# Altium footprint library footprint.PcbLib: 25 footprints (part 1 of 2)
Each footprint in its own frame and in the unit in brackets; x right, y up, seen from the top. Pads: shape width x height; smd on the part's side, far side on the other; paste and mask are expansions set on the pad; w line width, h text height; cw(c..) or ccw(c..) is an arc to the next point about the centre after c.
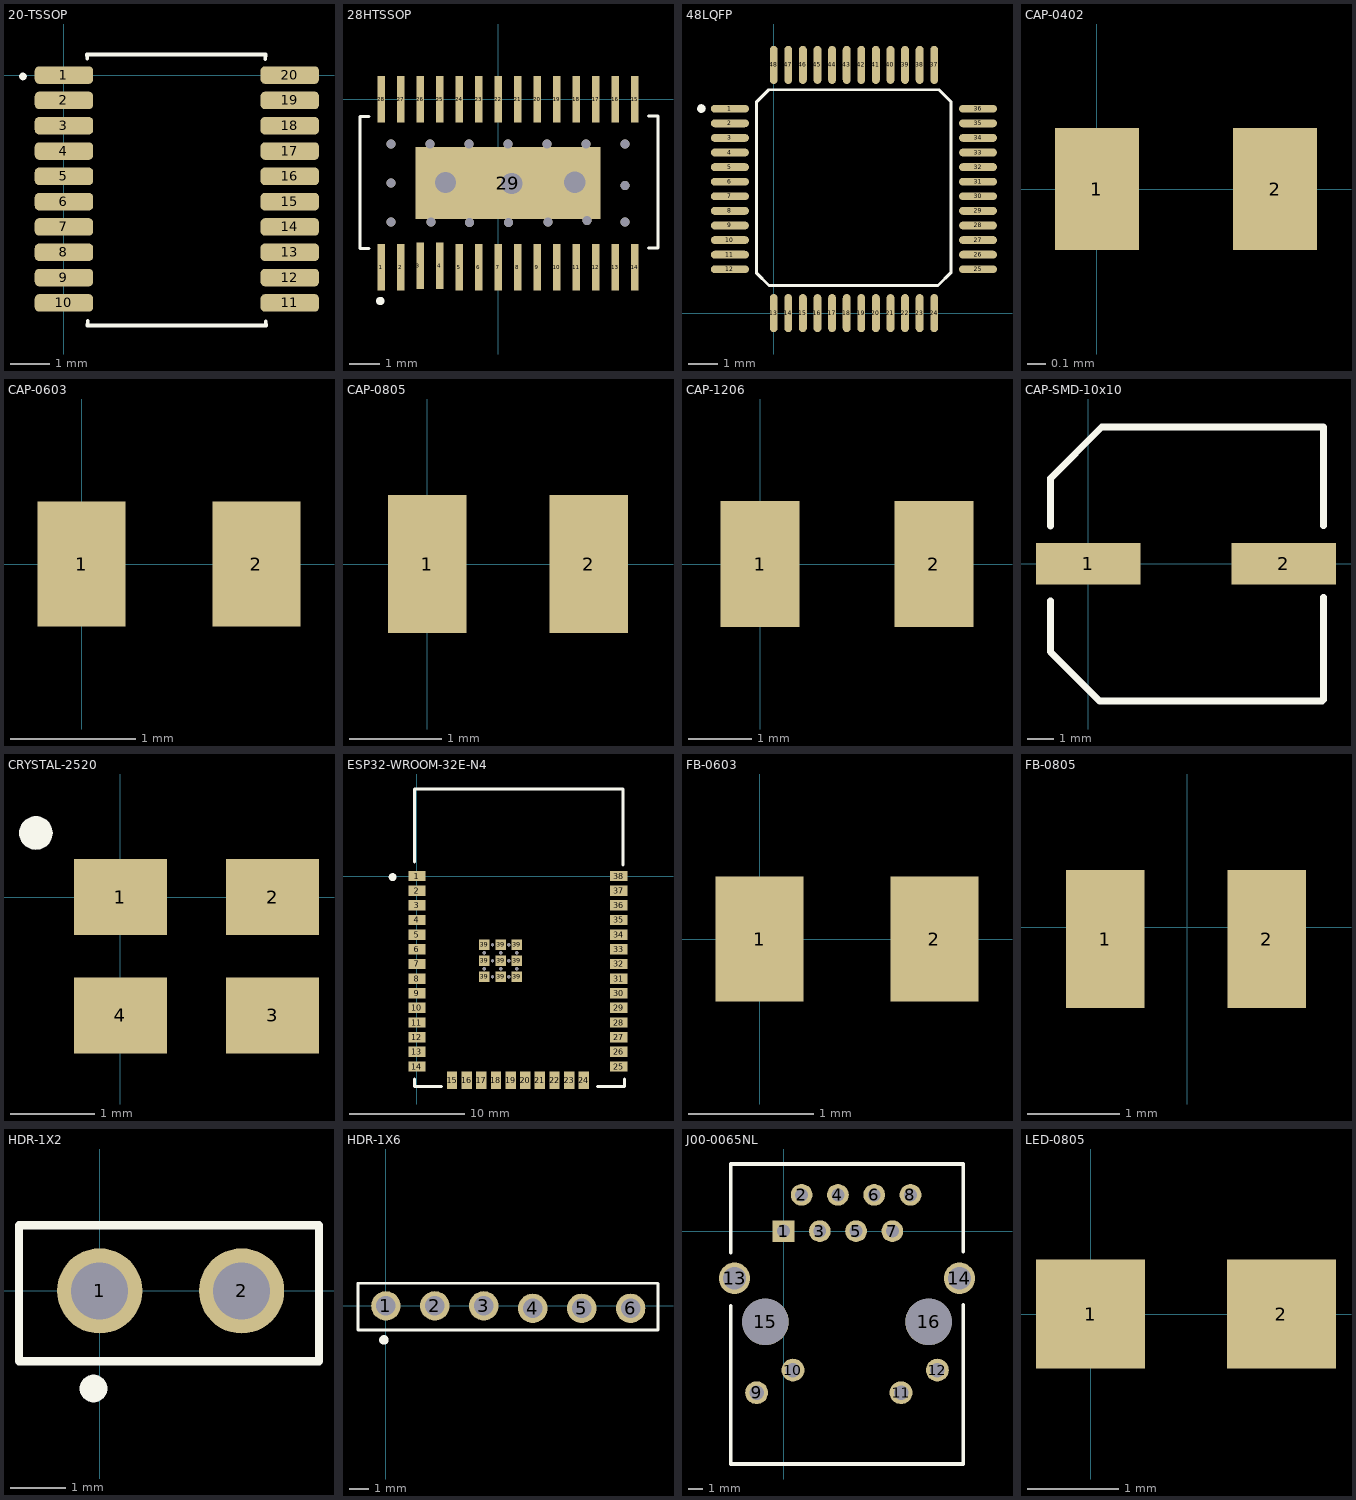
[diagram p0: the footprints below, top view; thin cyan lines are the x and y axes]

## 20-TSSOP [mm]
pads (21):
  rrect50% 1.5x0.45 smd mask+0.05: 1(0,0) 2(0,-0.65) 3(0,-1.3) 4(0,-1.95) 5(0,-2.6) 6(0,-3.25) 7(0,-3.9) 8(0,-4.55) 9(0,-5.2) 10(0,-5.85) 11(5.8,-5.85) 12(5.8,-5.2) 13(5.8,-4.55) 14(5.8,-3.9) 15(5.8,-3.25) 16(5.8,-2.6) 17(5.8,-1.95) 18(5.8,-1.3) 19(5.8,-0.65) 20(5.8,0)
  round 0.2 on Top Overlay: ""(-1.054,-0.033)
Top Overlay:
  lines w0.1: 0.598,0.421 0.596,0.528 5.171,0.528 ; 0.611,-6.312 0.609,-6.433 5.185,-6.433 5.183,-6.326 ; 5.17,0.407 5.172,0.528
3D body "PW0020A.stp": height 1.13, standoff 0, extent -0.293,-6.185 6.107,0.315

## 28HTSSOP [mm]
pads (29):
  rect 0.25x1.55 smd mask+0.07: 1(-3.9,-5.6) 2(-3.25,-5.6) "3  "(-2.6,-5.56) 4(-1.95,-5.56) 5(-1.3,-5.6) 6(-0.65,-5.6) 7(0,-5.6) 8(0.65,-5.6) 9(1.3,-5.6) 10(1.95,-5.6) 11(2.6,-5.6) 12(3.25,-5.6) 13(3.9,-5.6) 14(4.55,-5.6) 15(4.55,0) 16(3.9,0) 17(3.25,0) 18(2.6,0) 19(1.95,0) 20(1.3,0) 21(0.65,0) 22(0,0) 23(-0.65,0) 24(-1.3,0) 25(-1.95,0) 26(-2.6,0) 27(-3.25,0) 28(-3.9,0)
  rect 6.17x2.4 smd: 29(0.325,-2.8)
via 4.225,-1.5 diameter 0.3 hole 0.3
via 2.925,-1.5 diameter 0.3 hole 0.3
via -3.575,-1.5 diameter 0.3 hole 0.3
via 1.625,-1.5 diameter 0.3 hole 0.3
via 0.325,-1.5 diameter 0.3 hole 0.3
via -0.975,-1.5 diameter 0.3 hole 0.3
via -2.275,-1.5 diameter 0.3 hole 0.3
via 4.233,-4.096 diameter 0.3 hole 0.3
via -3.575,-4.1 diameter 0.3 hole 0.3
via -3.575,-2.8 diameter 0.3 hole 0.3
via 2.954,-4.056 diameter 0.3 hole 0.3
via 4.222,-2.875 diameter 0.3 hole 0.3
via -2.249,-4.101 diameter 0.3 hole 0.3
via -0.951,-4.123 diameter 0.3 hole 0.3
via 0.347,-4.123 diameter 0.3 hole 0.3
via 1.652,-4.102 diameter 0.3 hole 0.3
via 2.551,-2.771 diameter 1 hole 0.711
via -1.757,-2.783 diameter 1 hole 0.711
via 0.455,-2.817 diameter 1 hole 0.711
Top Layer:
  region: -1.905,-2.667 -2.038,-2.8 -2.275,-2.8
Top Overlay:
  circle w0.2: c-3.937,-6.731 r0.04
  lines w0.1: -4.304,-4.986 -4.613,-4.986 -4.613,-0.586 -4.304,-0.586 ; 5.018,-4.968 5.327,-4.968 5.327,-0.568 5.018,-0.568
3D body "TPA3111D1PWP.STEP": height 1.2, standoff 0, extent -4.527,-5.975 5.173,0.425

## 48LQFP [mm]
pads (49):
  oval 1.3x0.27 smd mask+0.05: 1(-1.5,7) 2(-1.5,6.5) 3(-1.5,6) 4(-1.5,5.5) 5(-1.5,5) 6(-1.5,4.5) 7(-1.5,4) 8(-1.5,3.5) 9(-1.5,3) 10(-1.5,2.5) 11(-1.5,2) 12(-1.5,1.5) 25(7,1.5) 26(7,2) 27(7,2.5) 28(7,3) 29(7,3.5) 30(7,4) 31(7,4.5) 32(7,5) 33(7,5.5) 34(7,6) 35(7,6.5) 36(7,7)
  oval 0.27x1.3 smd mask+0.05: 13(0,0) 14(0.5,0) 15(1,0) 16(1.5,0) 17(2,0) 18(2.5,0) 19(3,0) 20(3.5,0) 21(4,0) 22(4.5,0) 23(5,0) 24(5.5,0) 37(5.5,8.5) 38(5,8.5) 39(4.5,8.5) 40(4,8.5) 41(3.5,8.5) 42(3,8.5) 43(2.5,8.5) 44(2,8.5) 45(1.5,8.5) 46(1,8.5) 47(0.5,8.5) 48(0,8.5)
  round 0.3 on Top Overlay: ""(-2.477,7.005)
Top Overlay:
  lines w0.1: -0.596,1.377 -0.16,0.942 5.624,0.942 6.08,1.397 6.08,7.235 5.665,7.65 -0.17,7.65 -0.596,7.224 -0.596,1.377
3D body "W5500--3DModel-STEP-56544.STEP": height 1.6, standoff 0, extent -1.731,-0.241 7.269,8.759

## CAP-0402 [mm]
pads (2):
  rect 0.45x0.65 smd mask+0.02: 1(0,0) 2(0.95,0)
3D body "0402YA470JAT2A.STEP": height 0.25, standoff -0.25, extent -0.026,-0.281 0.974,0.279

## CAP-0603 [mm]
pads (2):
  rect 0.7x1 smd mask+0.03: 1(0,0) 2(1.4,0)
3D body "CC0603JRNPO0BN360.STEP": height 0.4, standoff -0.4, extent -0.094,-0.448 1.506,0.452

## CAP-0805 [mm]
pads (2):
  rect 0.85x1.5 smd mask+0.04: 1(0,0) 2(1.75,0)
3D body "0805YC103J4T2A.STEP": height 0.63, standoff -0.63, extent -0.132,-0.446 1.878,0.494

## CAP-1206 [mm]
pads (2):
  rect 1.25x2 smd mask+0.05: 1(0,0) 2(2.75,0)
3D body "C1206C120J5GACTU.STEP": height 0.88, standoff 0, extent -0.185,-0.778 3.015,0.822

## CAP-SMD-10x10 [mm]
pads (2):
  rect 4x1.6 smd mask+0.07: 1(0,0) 2(7.5,0)
Top Overlay:
  lines w0.254: -1.446,-1.42 -1.446,-3.381 0.435,-5.262 8.974,-5.262 ; -1.446,1.443 -1.446,3.271 0.52,5.238 9.021,5.238 9.021,1.459 ; 9.021,-5.215 9.021,-1.288
3D body "UUQ1H101MCL1GS.STEP": height 10.8, standoff 0, extent -1.644,-5.155 9.256,5.145

## CRYSTAL-2520 [mm]
pads (5):
  rect 1.1x0.9 smd mask+0.05: 1(0,0) 2(1.8,0) 3(1.8,-1.4) 4(0,-1.4)
  round 0.4 on Top Overlay: ""(-1,0.759)
3D body "SXT22413BB48-25.000M.STEP": height 0.65, standoff 0, extent -0.371,-1.701 2.129,0.299

## ESP32-WROOM-32E-N4 [mm]
pads (48):
  rect 1.5x0.9 smd mask+0.1: 1(0,0) 2(0,-1.27) 3(0,-2.54) 4(0,-3.81) 5(0,-5.08) 6(0,-6.35) 7(0,-7.62) 8(0,-8.89) 9(0,-10.16) 10(0,-11.43) 11(0,-12.7) 12(0,-13.97) 13(0,-15.24) 14(0,-16.51) 25(17.5,-16.51) 26(17.5,-15.24) 27(17.5,-13.97) 28(17.5,-12.7) 29(17.5,-11.43) 30(17.5,-10.16) 31(17.5,-8.89) 32(17.5,-7.62) 33(17.5,-6.35) 34(17.5,-5.08) 35(17.5,-3.81) 36(17.5,-2.54) 37(17.5,-1.27) 38(17.5,0)
  rect 0.9x1.5 smd mask+0.1: 15(3.04,-17.71) 16(4.31,-17.71) 17(5.58,-17.71) 18(6.85,-17.71) 19(8.12,-17.71) 20(9.39,-17.71) 21(10.66,-17.71) 22(11.93,-17.71) 23(13.2,-17.71) 24(14.47,-17.71)
  rect 0.9x0.9 smd mask+0.1: 39(5.85,-8.74) 39(5.85,-7.34) 39(5.85,-5.94) 39(7.25,-8.74) 39(7.25,-7.34) 39(7.25,-5.94) 39(8.65,-8.74) 39(8.65,-7.34) 39(8.65,-5.94)
  round 0.7 on Top Overlay: ""(-2.112,-0.084)
via 6.55,-5.94 diameter 0.3 hole 0.3
via 7.95,-5.94 diameter 0.3 hole 0.3
via 7.95,-7.34 diameter 0.3 hole 0.3
via 7.95,-8.74 diameter 0.3 hole 0.3
via 6.55,-8.74 diameter 0.3 hole 0.3
via 6.55,-7.34 diameter 0.3 hole 0.3
via 7.25,-6.64 diameter 0.3 hole 0.3
via 8.65,-6.64 diameter 0.3 hole 0.3
via 5.85,-6.64 diameter 0.3 hole 0.3
via 5.85,-8.04 diameter 0.3 hole 0.3
via 7.25,-8.04 diameter 0.3 hole 0.3
via 8.65,-8.04 diameter 0.3 hole 0.3
Top Overlay:
  lines w0.254: -0.203,-17.581 -0.203,-18.226 2.129,-18.226 ; -0.203,1.226 -0.203,1.974 -0.203,7.546 17.868,7.546 17.868,0.965 ; 15.658,-18.226 17.99,-18.226 17.99,-17.581
3D body "step_temp.STEP": height 3.25, standoff 0, extent -0.183,-18.059 17.817,7.441

## FB-0603 [mm]
pads (2):
  rect 0.7x1 smd mask+0.03: 1(0,0) 2(1.4,0)
3D body "MH1608-121Y--3DModel-STEP-269445.STEP": height 0.4, standoff -0.4, extent -0.111,-0.504 1.489,0.496

## FB-0805 [mm]
pads (2):
  rect 0.85x1.5 smd mask+0.04: 1(-0.889,-0.127) 2(0.861,-0.127)
3D body "BLM21PG331SN1D.STEP": height 0.63, standoff -0.63, extent -1.014,-0.659 0.986,0.391

## HDR-1X2 [mm]
pads (3):
  round 1.524 hole 1.02 mask+0.1: 1(0,0) 2(2.54,0)
  round 0.5 on Top Overlay: ""(-0.109,-1.747)
Top Overlay:
  lines w0.15: 3.924,-1.259 3.924,1.171 -0.33,1.171 -1.443,1.171 -1.443,-1.257 3.924,-1.257
3D body "10118615-502003LF--3DModel-STEP-554624.STEP": height 6.6, standoff -2.74, extent -1.252,-1.174 3.828,1.239

## HDR-1X6 [mil]
pads (7):
  round 60 hole 40.16 mask+3.94: 1(0,0) 2(100,0) 3(200,0) 4(300,-5) 5(400,-5) 6(500,-5)
  round 19.68 on Top Overlay: ""(-3.95,-69.45)
Top Overlay:
  lines w5.91: -56.86,-49.5 555.79,-49.5 555.79,45.2 ; -56.82,-47.02 -56.82,46.12 -13,46.12 554.87,46.12
3D body "DS1021-1_6SF1-1.STEP": height 338.58, standoff -118.11, extent -50.85,-52 549.15,48

## J00-0065NL [mm]
pads (16):
  rect 1.524x1.524 hole 0.9 mask+0.15: 1(0,0)
  round 1.524 hole 0.9 mask+0.15: 2(1.27,2.54) 3(2.54,0) 4(3.81,2.54) 5(5.08,0) 6(6.35,2.54) 7(7.62,0) 8(8.89,2.54)
  round 1.6 hole 1.02 mask+0.15: 9(-1.88,-11.31) 10(0.66,-9.73) 11(8.23,-11.31) 12(10.77,-9.73)
  round 2.2 hole 1.6 mask+0.15: 13(-3.43,-3.3) 14(12.32,-3.3)
  round 3.25 hole 3.25 unplated mask+0.15: 15(-1.27,-6.35) 16(10.16,-6.35)
Top Overlay:
  lines w0.254: -3.705,-16.301 12.595,-16.301 12.595,-5.142 ; -3.705,-16.279 -3.705,-5.227 ; -3.705,-1.498 -3.705,4.7 12.595,4.7 12.595,-1.438
3D body "J00-0065NL--3DModel-STEP-1.STEP": height 15.31, standoff -3.42, extent -5.173,-17.237 13.851,4.353

## LED-0805 [mm]
pads (2):
  rect 1.2x1.2 smd mask+0.07: 1(0,0) 2(2.1,0)
3D body "LTST-C170GKT.STEP": height 1.1, standoff 0, extent 0.045,-0.611 2.045,0.639